# EAGLE library part LM358A (library op-amp)
IC OPAMP GP 1.1MHZ 8SO
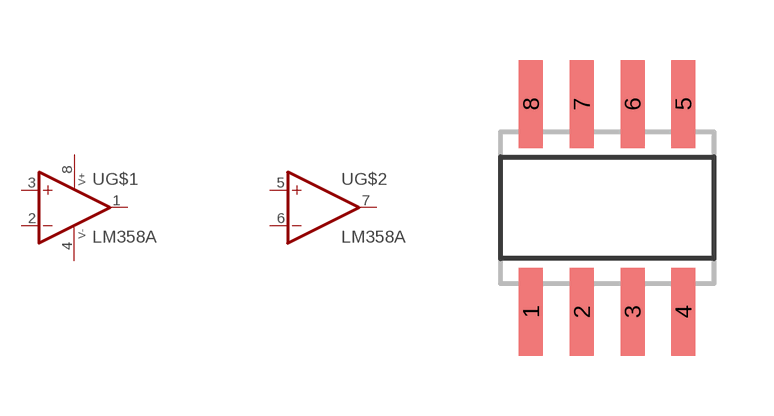
[diagram p70: symbol with the pads of SO08; footprint SO08]

Designator prefix U; gates G$1=OPAMP G$2=OPAMP G$3=PWR+-

## LM358AD (DIGIKEY: 497-1590-1-ND; P1I: o; VALUE: LM358A)  [SO08]
1  G$1:OUT  out
2  G$1:-IN  in
3  G$1:+IN  in
4  G$3:V-  pwr
5  G$2:+IN  in
6  G$2:-IN  in
7  G$2:OUT  out
8  G$3:V+  pwr

## Footprint SO08 (pad centres in mm)
SMALL OUTLINE INTEGRATED CIRCUIT body 3.9 mm/JEDEC MS-012AA
smd 0.6 x 2.2: 1 -1.905,-2.6; 2 -0.635,-2.6; 3 0.635,-2.6; 4 1.905,-2.6; 5 1.905,2.6; 6 0.635,2.6; 7 -0.635,2.6; 8 -1.905,2.6